# EAGLE library part CONNECTOR (library libliblib)
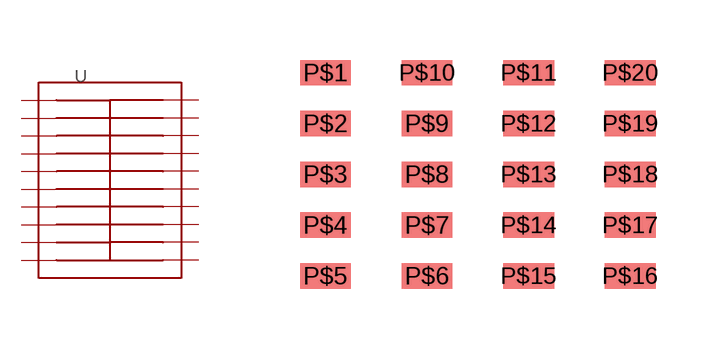
[diagram p3: symbol with the pads of CONNECTOR; footprint CONNECTOR]

Designator prefix -

## CONNECTOR  [CONNECTOR]
P$1  P$1
P$2  P$2
P$3  P$3
P$4  P$4
P$5  P$5
P$6  P$6
P$7  P$7
P$8  P$8
P$9  P$9
P$10  P$10
P$11  P$11
P$12  P$12
P$13  P$13
P$14  P$14
P$15  P$15
P$16  P$16
P$17  P$17
P$18  P$18
P$19  P$19
P$20  P$20

## Footprint CONNECTOR (pad centres in mm)
smd 1.27 x 0.635: P$1 -1.27,2.54; P$2 -1.27,1.27; P$3 -1.27,0; P$4 -1.27,-1.27; P$5 -1.27,-2.54; P$6 1.27,-2.54; P$7 1.27,-1.27; P$8 1.27,0; P$9 1.27,1.27; P$10 1.27,2.54; P$11 3.81,2.54; P$12 3.81,1.27; P$13 3.81,0; P$14 3.81,-1.27; P$15 3.81,-2.54; P$16 6.35,-2.54; P$17 6.35,-1.27; P$18 6.35,0; P$19 6.35,1.27; P$20 6.35,2.54